# Altium integrated library OPL_Capacitor.IntLib: 81 symbols
Pins are listed as number, name and electrical type; pins without a type are passive.

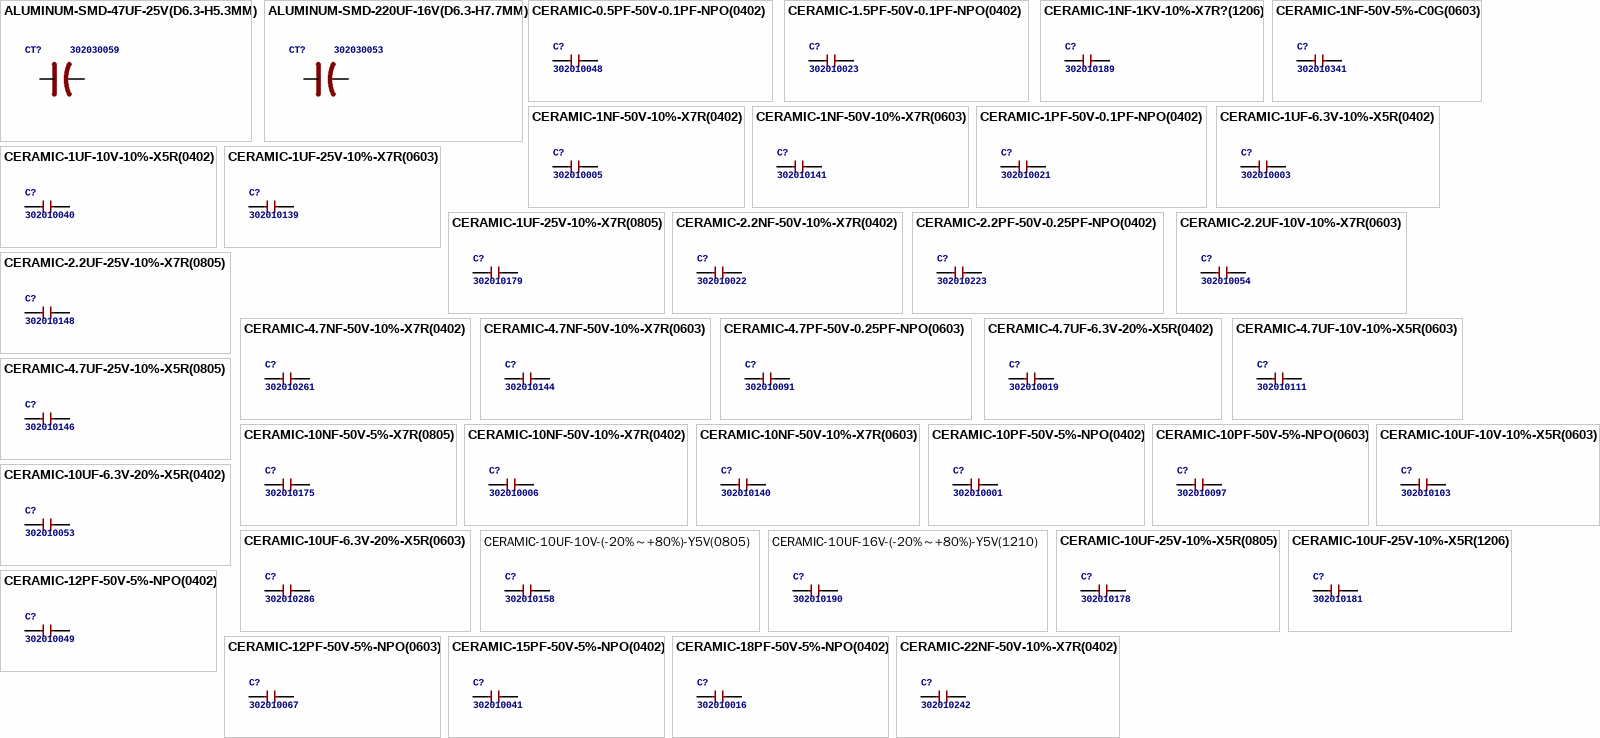
[diagram p0: symbols ALUMINUM-SMD-47UF-25V(D6.3-H5.3MM) to CERAMIC-22NF-50V-10%-X7R(0402)]

## ALUMINUM-SMD-47UF-25V(D6.3-H5.3MM)
designator CT?, comment 302030059
MPN: CS1E470M-CRE54
footprint ELECTRO-SMD-C-6MM
pins: +, -

## ALUMINUM-SMD-220UF-16V(D6.3-H7.7MM)
designator CT?, comment 302030053
MPN: CS1E221M-CRE77
footprint ELECTRO-SMD-C-6MM
pins: +, -

## CERAMIC-0.5PF-50V-0.1PF-NPO(0402)
designator C?, comment 302010048
MPN: CC0402BRNPO9BNR50
footprint C0402
pins: 1, 2

## CERAMIC-1.5PF-50V-0.1PF-NPO(0402)
designator C?, comment 302010023
MPN: CC0402BRNPO9BN1R5
footprint C0402
pins: 1, 2

## CERAMIC-1NF-1KV-10%-X7R?(1206)
designator C?, comment 302010189
MPN: CC1206KKX7RCBB102
footprint C1206
pins: 1, 2

## CERAMIC-1NF-50V-5%-C0G(0603)
designator C?, comment 302010341
MPN: GRM1885C1H102JA01D
footprint C0603
pins: 1, 2

## CERAMIC-1NF-50V-10%-X7R(0402)
designator C?, comment 302010005
MPN: CC0402KRX7R9BB102
footprint C0402
pins: 1, 2

## CERAMIC-1NF-50V-10%-X7R(0603)
designator C?, comment 302010141
MPN: CC0603KRX7R9BB102
footprint C0603
pins: 1, 2

## CERAMIC-1PF-50V-0.1PF-NPO(0402)
designator C?, comment 302010021
MPN: CC0402BRNPO9BN1R0
footprint C0402
pins: 1, 2

## CERAMIC-1UF-6.3V-10%-X5R(0402)
designator C?, comment 302010003
MPN: CC0402KRX5R5BB105
footprint C0402
pins: 1, 2

## CERAMIC-1UF-10V-10%-X5R(0402)
designator C?, comment 302010040
MPN: CC0402KRX5R6BB105
footprint C0402
pins: 1, 2

## CERAMIC-1UF-25V-10%-X7R(0603)
designator C?, comment 302010139
MPN: CC0603KRX7R8BB105
footprint C0603
pins: 1, 2

## CERAMIC-1UF-25V-10%-X7R(0805)
designator C?, comment 302010179
MPN: CC0805KKX7R8BB105
footprint C0805
pins: 1, 2

## CERAMIC-2.2NF-50V-10%-X7R(0402)
designator C?, comment 302010022
MPN: CC0402KRX7R9BB222
footprint C0402
pins: 1, 2

## CERAMIC-2.2PF-50V-0.25PF-NPO(0402)
designator C?, comment 302010223
MPN: CC0402CRNPO9BN2R2
footprint C0402
pins: 1, 2

## CERAMIC-2.2UF-10V-10%-X7R(0603)
designator C?, comment 302010054
MPN: CC0603KRX7R6BB225
footprint C0603
pins: 1, 2

## CERAMIC-2.2UF-25V-10%-X7R(0805)
designator C?, comment 302010148
MPN: CC0805KKX7R8BB225
footprint C0805
pins: 1, 2

## CERAMIC-4.7NF-50V-10%-X7R(0402)
designator C?, comment 302010261
MPN: CC0402KRX7R9BB472
footprint C0402
pins: 1, 2

## CERAMIC-4.7NF-50V-10%-X7R(0603)
designator C?, comment 302010144
MPN: CC0603KRX7R9BB472
footprint C0603
pins: 1, 2

## CERAMIC-4.7PF-50V-0.25PF-NPO(0603)
designator C?, comment 302010091
MPN: CC0603CRNPO9BN4R7
footprint C0603
pins: 1, 2

## CERAMIC-4.7UF-6.3V-20%-X5R(0402)
designator C?, comment 302010019
MPN: CC0402MRX5R5BB475
footprint C0402
pins: 1, 2

## CERAMIC-4.7UF-10V-10%-X5R(0603)
designator C?, comment 302010111
MPN: CC0603KRX5R6BB475
footprint C0603
pins: 1, 2

## CERAMIC-4.7UF-25V-10%-X5R(0805)
designator C?, comment 302010146
MPN: CC0805KKX5R8BB475
footprint C0805
pins: 1, 2

## CERAMIC-10NF-50V-5%-X7R(0805)
designator C?, comment 302010175
MPN: CC0805JRX7R9BB103
footprint C0805
pins: 1, 2

## CERAMIC-10NF-50V-10%-X7R(0402)
designator C?, comment 302010006
MPN: CC0402KRX7R9BB103
footprint C0402
pins: 1, 2

## CERAMIC-10NF-50V-10%-X7R(0603)
designator C?, comment 302010140
MPN: CC0603KRX7R9BB103
footprint C0603
pins: 1, 2

## CERAMIC-10PF-50V-5%-NPO(0402)
designator C?, comment 302010001
MPN: CC0402JRNPO9BN100
footprint C0402
pins: 1, 2

## CERAMIC-10PF-50V-5%-NPO(0603)
designator C?, comment 302010097
MPN: CC0603JRNPO9BN100
footprint C0603
pins: 1, 2

## CERAMIC-10UF-6.3V-20%-X5R(0402)
designator C?, comment 302010053
MPN: CC0402MRX5R5BB106
footprint C0402
pins: 1, 2

## CERAMIC-10UF-6.3V-20%-X5R(0603)
designator C?, comment 302010286
MPN: CC0603MRX5R5BB106
footprint C0603
pins: 1, 2

## CERAMIC-10UF-10V-10%-X5R(0603)
designator C?, comment 302010103
MPN: CC0603KRX5R6BB106
footprint C0603
pins: 1, 2

## CERAMIC-10UF-10V-(-20%～+80%)-Y5V(0805)
designator C?, comment 302010158
MPN: CC0805ZKY5V6BB106
footprint C0805
pins: 1, 2

## CERAMIC-10UF-16V-(-20%～+80%)-Y5V(1210)
designator C?, comment 302010190
footprint C1210
pins: 1, 2

## CERAMIC-10UF-25V-10%-X5R(0805)
designator C?, comment 302010178
MPN: CC0805KKX5R8BB106
footprint C0805
pins: 1, 2

## CERAMIC-10UF-25V-10%-X5R(1206)
designator C?, comment 302010181
MPN: CC1206KKX5R8BB106
footprint C1206
pins: 1, 2

## CERAMIC-12PF-50V-5%-NPO(0402)
designator C?, comment 302010049
MPN: CC0402JRNPO9BN120
footprint C0402
pins: 1, 2

## CERAMIC-12PF-50V-5%-NPO(0603)
designator C?, comment 302010067
MPN: CC0603JRNPO9BN120
footprint C0603
pins: 1, 2

## CERAMIC-15PF-50V-5%-NPO(0402)
designator C?, comment 302010041
MPN: GRM1555C1H150JA01D
footprint C0402
pins: 1, 2

## CERAMIC-18PF-50V-5%-NPO(0402)
designator C?, comment 302010016
MPN: CC0402JRNPO9BN180
footprint C0402
pins: 1, 2

## CERAMIC-22NF-50V-10%-X7R(0402)
designator C?, comment 302010242
MPN: CC0402KRX7R9BB223
footprint C0402
pins: 1, 2

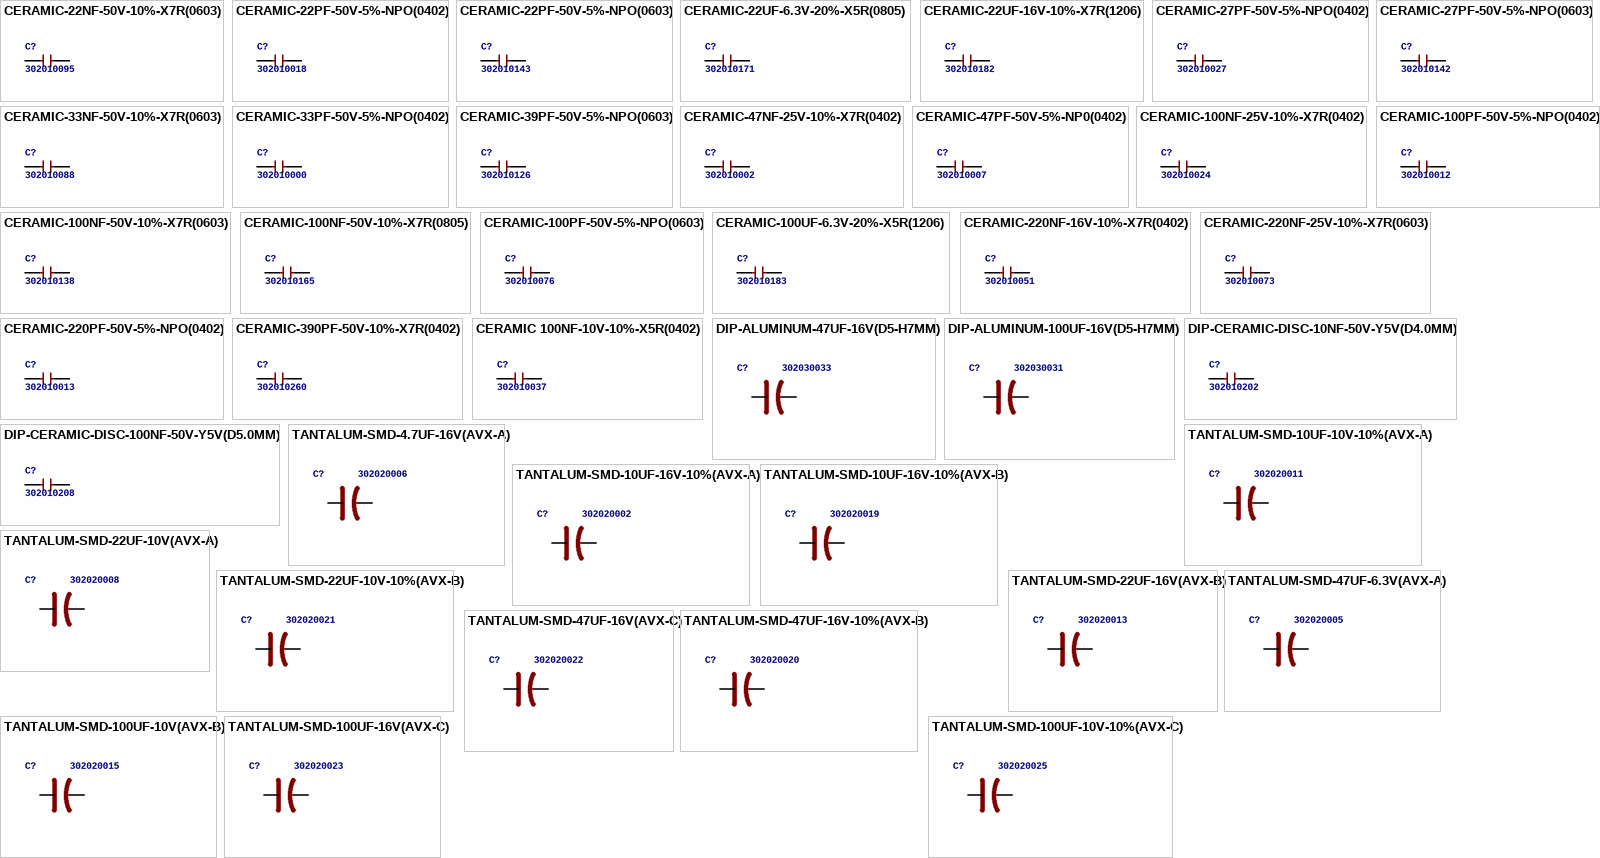
[diagram p1: symbols CERAMIC-22NF-50V-10%-X7R(0603) to TANTALUM-SMD-100UF-16V(AVX-C)]

## CERAMIC-22NF-50V-10%-X7R(0603)
designator C?, comment 302010095
MPN: CC0603KRX7R9BB223
footprint C0603
pins: 1, 2

## CERAMIC-22PF-50V-5%-NPO(0402)
designator C?, comment 302010018
MPN: CC0402JRNPO9BN220
footprint C0402
pins: 1, 2

## CERAMIC-22PF-50V-5%-NPO(0603)
designator C?, comment 302010143
MPN: CC0603JRNPO9BN220
footprint C0603
pins: 1, 2

## CERAMIC-22UF-6.3V-20%-X5R(0805)
designator C?, comment 302010171
MPN: CC0805MKX5R5BB226
footprint C0805
pins: 1, 2

## CERAMIC-22UF-16V-10%-X7R(1206)
designator C?, comment 302010182
footprint C1206
pins: 1, 2

## CERAMIC-27PF-50V-5%-NPO(0402)
designator C?, comment 302010027
MPN: CC0402JRNPO9BN270
footprint C0402
pins: 1, 2

## CERAMIC-27PF-50V-5%-NPO(0603)
designator C?, comment 302010142
MPN: CC0603JRNPO9BN270
footprint C0603
pins: 1, 2

## CERAMIC-33NF-50V-10%-X7R(0603)
designator C?, comment 302010088
MPN: CC0603KRX7R9BB333
footprint C0603
pins: 1, 2

## CERAMIC-33PF-50V-5%-NPO(0402)
designator C?, comment 302010000
MPN: CC0402JRNPO9BN330
footprint C0402
pins: 1, 2

## CERAMIC-39PF-50V-5%-NPO(0603)
designator C?, comment 302010126
MPN: CC0603JRNPO9BN390
footprint C0603
pins: 1, 2

## CERAMIC-47NF-25V-10%-X7R(0402)
designator C?, comment 302010002
MPN: CC0402KRX7R8BB473
footprint C0402
pins: 1, 2

## CERAMIC-47PF-50V-5%-NP0(0402)
designator C?, comment 302010007
MPN: CC0402JRNPO9BN470
footprint C0402
pins: 1, 2

## CERAMIC-100NF-25V-10%-X7R(0402)
designator C?, comment 302010024
MPN: CC0402KRX7R8BB104
footprint C0402
pins: 1, 2

## CERAMIC-100NF-50V-10%-X7R(0603)
designator C?, comment 302010138
MPN: CC0603KRX7R9BB104
footprint C0603
pins: 1, 2

## CERAMIC-100NF-50V-10%-X7R(0805)
designator C?, comment 302010165
MPN: CC0805KRX7R9BB104
footprint C0805
pins: 1, 2

## CERAMIC-100PF-50V-5%-NPO(0402)
designator C?, comment 302010012
MPN: CC0402JRNPO9BN101
footprint C0402
pins: 1, 2

## CERAMIC-100PF-50V-5%-NPO(0603)
designator C?, comment 302010076
MPN: CC0603JRNPO9BN101
footprint C0603
pins: 1, 2

## CERAMIC-100UF-6.3V-20%-X5R(1206)
designator C?, comment 302010183
MPN: GRM31CR60J107ME39L
footprint C1206
pins: 1, 2

## CERAMIC-220NF-16V-10%-X7R(0402)
designator C?, comment 302010051
MPN: CC0402KRX7R7BB224
footprint C0402
pins: 1, 2

## CERAMIC-220NF-25V-10%-X7R(0603)
designator C?, comment 302010073
MPN: CC0603KRX7R8BB224
footprint C0603
pins: 1, 2

## CERAMIC-220PF-50V-5%-NPO(0402)
designator C?, comment 302010013
MPN: CC0402JRNPO9BN221
footprint C0402
pins: 1, 2

## CERAMIC-390PF-50V-10%-X7R(0402)
designator C?, comment 302010260
MPN: CC0402KRX7R9BB391
footprint C0402
pins: 1, 2

## CERAMIC 100NF-10V-10%-X5R(0402)
designator C?, comment 302010037
MPN: CC0402KRX5R6BB104
footprint C0402
pins: 1, 2

## DIP-ALUMINUM-47UF-16V(D5-H7MM)
designator C?, comment 302030033
MPN: KS 100uF/16V
footprint PC-D5.3MM
pins: +, -

## DIP-ALUMINUM-100UF-16V(D5-H7MM)
designator C?, comment 302030031
MPN: KS 100uF/16V
footprint PC-D5.3MM
pins: +, -

## DIP-CERAMIC-DISC-10NF-50V-Y5V(D4.0MM)
designator C?, comment 302010202
footprint CERAMIC-2.54
pins: 1, 2

## DIP-CERAMIC-DISC-100NF-50V-Y5V(D5.0MM)
designator C?, comment 302010208
MPN: CC1-F5SL2A101KSPW
footprint CERAMIC-2.54
pins: 1, 2

## TANTALUM-SMD-4.7UF-16V(AVX-A)
designator C?, comment 302020006
MPN: TAJA475*016#NJ
footprint AVX-A
pins: +, -

## TANTALUM-SMD-10UF-10V-10%(AVX-A)
designator C?, comment 302020011
MPN: TAJA106K010RNJ
footprint AVX-A
pins: +, -

## TANTALUM-SMD-10UF-16V-10%(AVX-A)
designator C?, comment 302020002
MPN: TAJA106K016RNJ
footprint AVX-A
pins: +, -

## TANTALUM-SMD-10UF-16V-10%(AVX-B)
designator C?, comment 302020019
MPN: TAJB106K016RNJ
footprint AVX-B
pins: +, -

## TANTALUM-SMD-22UF-10V(AVX-A)
designator C?, comment 302020008
MPN: TAJA226*010#NJ
footprint AVX-A
pins: +, -

## TANTALUM-SMD-22UF-10V-10%(AVX-B)
designator C?, comment 302020021
MPN: TAJB226K010RNJ
footprint AVX-B
pins: +, -

## TANTALUM-SMD-22UF-16V(AVX-B)
designator C?, comment 302020013
MPN: TAJB226*016#NJ
footprint AVX-B
pins: +, -

## TANTALUM-SMD-47UF-6.3V(AVX-A)
designator C?, comment 302020005
MPN: TAJA476*006#NJ
footprint AVX-A
pins: +, -

## TANTALUM-SMD-47UF-16V(AVX-C)
designator C?, comment 302020022
MPN: TAJC476*016#NJ
footprint AVX-C
pins: +, -

## TANTALUM-SMD-47UF-16V-10%(AVX-B)
designator C?, comment 302020020
MPN: TAJB476K010RNJ
footprint AVX-B
pins: +, -

## TANTALUM-SMD-100UF-10V(AVX-B)
designator C?, comment 302020015
MPN: TAJB107M010#NJ
footprint AVX-B
pins: +, -

## TANTALUM-SMD-100UF-10V-10%(AVX-C)
designator C?, comment 302020025
MPN: TAJC107K010RNJ
footprint AVX-C
pins: +, -

## TANTALUM-SMD-100UF-16V(AVX-C)
designator C?, comment 302020023
MPN: TAJC107K016RNJ
footprint AVX-C
pins: +, -

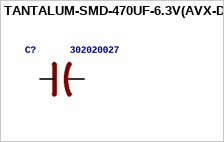
[diagram p2: symbol TANTALUM-SMD-470UF-6.3V(AVX-D)]

## TANTALUM-SMD-470UF-6.3V(AVX-D)
designator C?, comment 302020027
MPN: TAJD477*006#NJ
footprint AVX-D
pins: +, -